# Altium schematic symbol library ECHU1H331JX5.SchLib: 1 symbol
Pins are listed as number, name and electrical type; pins without a type are passive.

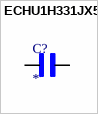
[diagram p0: symbol ECHU1H331JX5]

## ECHU1H331JX5
designator C?
Capacitor; ECHU, SMD, Stack Met PPS Film Cap, 50VDC, 0.00033uF, 5%, 0820, Cut Tape; MF: Panasonic; MP: ECH-U1H331JX5; Value: *; Purchase-URL: https://pricing.snapeda.com/search/part/ECH-U1H331JX5/?ref=eda; SnapEDA_Link: https://www.snapeda.com/parts/ECH-U1H331JX5/Panasonic/view-part/?ref=snap; Package: 0805-2 Panasonic; Digi-Key_Part_Number: PCF1322CT-ND; Check_prices: https://www.snapeda.com/parts/ECH-U1H331JX5/Panasonic/view-part/?ref=eda
footprint CAP_ECHU1H331JX5
pins: 1, 2